# EAGLE library part MSP430F1132 (library wheat)
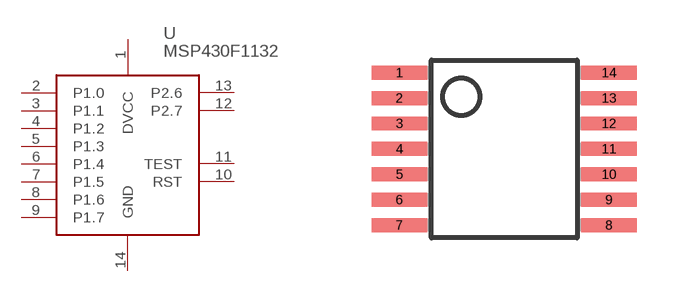
[diagram p145: symbol with the pads of TSSOP14; footprint TSSOP14]

Designator prefix U

## MSP430F1132PW  [TSSOP14]
1  DVCC  pwr
2  P1.0
3  P1.1
4  P1.2
5  P1.3
6  P1.4
7  P1.5
8  P1.6
9  P1.7
10  RST
11  TEST
12  P2.7
13  P2.6
14  GND  pwr

## Footprint TSSOP14 (pad centres in mm)
smd 1.397 x 0.348: 1 -2.619,1.905; 2 -2.62,1.27; 3 -2.62,0.635; 4 -2.62,0.001; 5 -2.62,-0.635; 6 -2.62,-1.27; 7 -2.62,-1.905; 8 2.62,-1.905; 9 2.62,-1.27; 10 2.62,-0.635; 11 2.62,0.001; 12 2.62,0.635; 13 2.62,1.27; 14 2.62,1.905